# EAGLE library part MDR_R_20G (library Con-MDR-Centronics)
20 pin MDR with ground
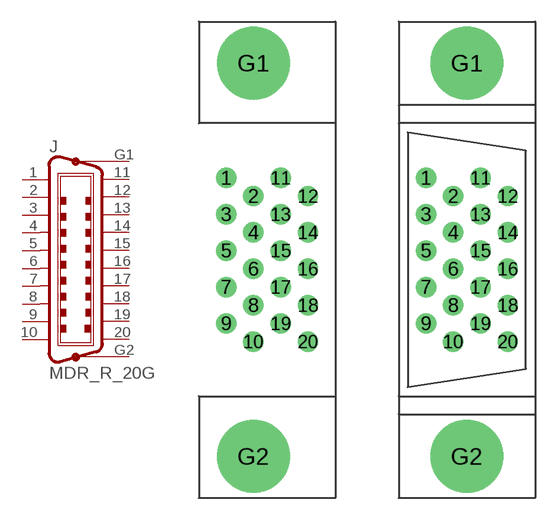
[diagram p3: symbol with the pads of MDR_R_20GH; footprints MDR_R_20GH, MDR_R_20GV]

Designator prefix J

## MDR_R_20GH  [MDR_R_20GH]
1  1  pas
2  2  pas
3  3  pas
4  4  pas
5  5  pas
6  6  pas
7  7  pas
8  8  pas
9  9  pas
10  10  pas
11  11  pas
12  12  pas
13  13  pas
14  14  pas
15  15  pas
16  16  pas
17  17  pas
18  18  pas
19  19  pas
20  20  pas
G1  G  pas
G2  G1  pas

## MDR_R_20GV  [MDR_R_20GV]
Pads as for MDR_R_20GH

## Footprint MDR_R_20GH (pad centres in mm)
drill 0.8 pad 1.422 round: 1 -3.81,5.715; 2 -1.905,4.445; 3 -3.81,3.175; 4 -1.905,1.905; 5 -3.81,0.635; 6 -1.905,-0.635; 7 -3.81,-1.905; 8 -1.905,-3.175; 9 -3.81,-4.445; 10 -1.905,-5.715; 11 0,5.715; 12 1.905,4.445; 13 0,3.175; 14 1.905,1.905; 15 0,0.635; 16 1.905,-0.635; 17 0,-1.905; 18 1.905,-3.175; 19 0,-4.445; 20 1.905,-5.715
drill 2.794 pad 5.08 round: G1 -1.905,13.729; G2 -1.905,-13.729

## Footprint MDR_R_20GV (pad centres in mm)
drill 0.8 pad 1.422 round: 1 -3.81,5.715; 2 -1.905,4.445; 3 -3.81,3.175; 4 -1.905,1.905; 5 -3.81,0.635; 6 -1.905,-0.635; 7 -3.81,-1.905; 8 -1.905,-3.175; 9 -3.81,-4.445; 10 -1.905,-5.715; 11 0,5.715; 12 1.905,4.445; 13 0,3.175; 14 1.905,1.905; 15 0,0.635; 16 1.905,-0.635; 17 0,-1.905; 18 1.905,-3.175; 19 0,-4.445; 20 1.905,-5.715
drill 2.794 pad 5.08 round: G1 -0.953,13.729; G2 -0.953,-13.729